# EAGLE library part WEMOS_S2_MINI (library Wemos_Boards)
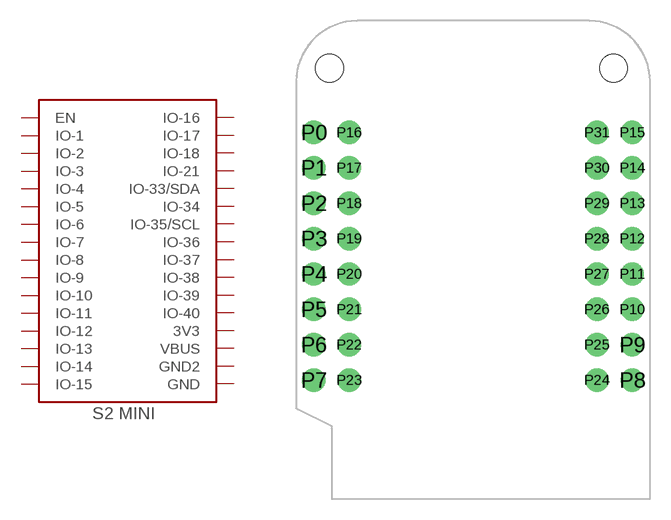
[diagram p0: symbol with the pads of S2_MINI; footprint S2_MINI]

Designator prefix -

## WEMOS_S2_MINI  [S2_MINI]
P0  IO-39
P1  IO-37
P2  IO-35/SCL  pwr
P3  IO-33/SDA
P4  IO-18
P5  IO-16
P6  GND  pwr
P7  VBUS  pwr
P8  3V3  pwr
P9  IO-12
P10  IO-11
P11  IO-9
P12  IO-7
P13  IO-5
P14  IO-3
P15  EN
P16  IO-40
P17  IO-38
P18  IO-36
P19  IO-34
P20  IO-21
P21  IO-17
P22  GND2  pwr
P23  IO-15
P24  IO-14
P25  IO-13
P26  IO-10
P27  IO-8
P28  IO-6
P29  IO-4
P30  IO-2
P31  IO-1

## Footprint S2_MINI (pad centres in mm)
drill 0.8 pad 1.676: P0 1.27,26.289; P1 1.27,23.749; P2 1.27,21.209; P3 1.27,18.669; P4 1.27,16.129; P5 1.27,13.589; P6 1.27,11.049; P7 1.27,8.509; P8 24.13,8.509; P9 24.13,11.049; P10 24.13,13.589; P11 24.13,16.129; P12 24.13,18.669; P13 24.13,21.209; P14 24.13,23.749; P15 24.13,26.289; P16 3.81,26.289; P17 3.81,23.749; P18 3.81,21.209; P19 3.81,18.669; P20 3.81,16.129; P21 3.81,13.589; P22 3.81,11.049; P23 3.81,8.509; P24 21.59,8.509; P25 21.59,11.049; P26 21.59,13.589; P27 21.59,16.129; P28 21.59,18.669; P29 21.59,21.209; P30 21.59,23.749; P31 21.59,26.289
hole 2 at 2.4,30.9
hole 2 at 22.78,30.9